# Altium footprint library XTAL-SPE-EQ160.PcbLib: 1 footprints
Each footprint in its own frame and in the unit in brackets; x right, y up, seen from the top. Pads: shape width x height; smd on the part's side, far side on the other; paste and mask are expansions set on the pad; w line width, h text height; cw(c..) or ccw(c..) is an arc to the next point about the centre after c.
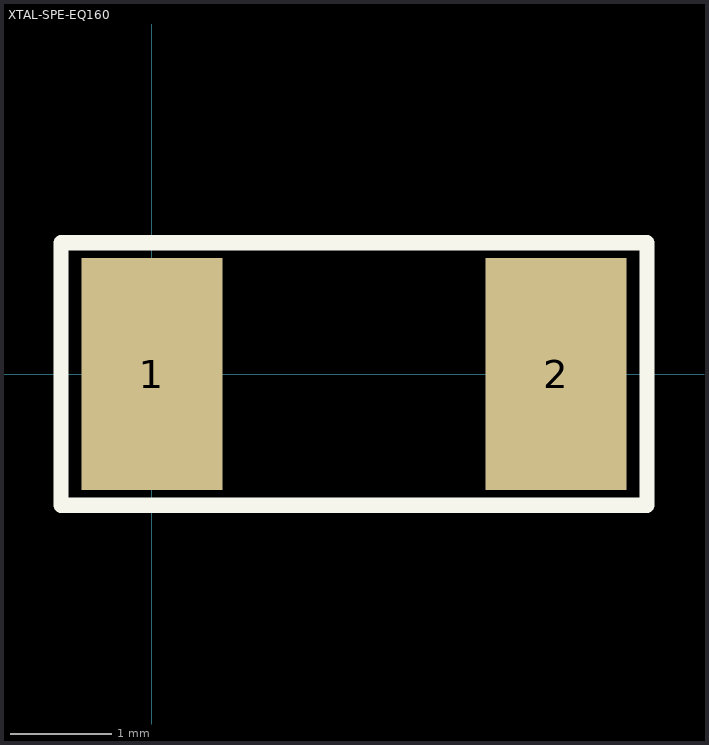
[diagram p0: the footprint, top view; thin cyan lines are the x and y axes]

## XTAL-SPE-EQ160 [mm]
pads (2):
  rect 1.4x2.3 smd: 1(0,0) 2(4,0)
Top Overlay:
  lines w0.15: -0.9,-1.3 -0.9,1.3 4.9,1.3 4.9,-1.3 -0.9,-1.3
3D body: height 0.6, standoff 0, extent -0.343,-0.935 4.457,0.965